# EAGLE library part PEC11R-4X (library Bourns-PEC11R-Encoder)
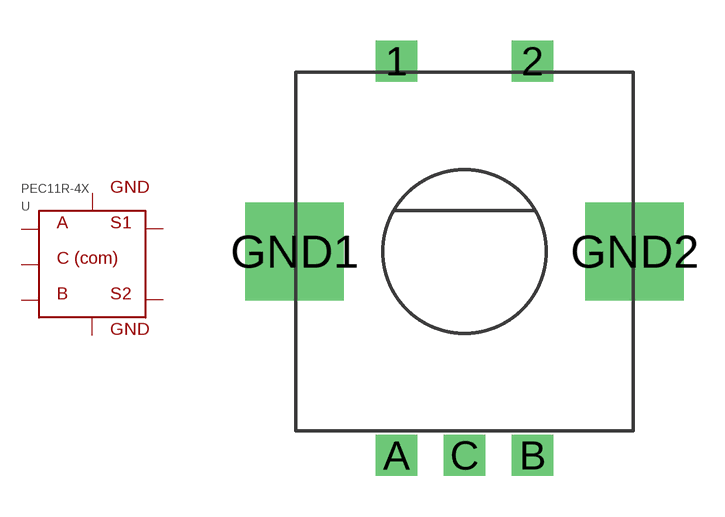
[diagram p0: symbol with the pads of ENC; footprint ENC]

Designator prefix -

## PEC11R-4X  [ENC]
1  SW1  pas
2  SW2  pas
A  A  pas
B  B  pas
C  C  pas
GND1  GND1  pas
GND2  GND2  pas

## Footprint ENC (pad centres in mm)
drill 1 square: 1 -2.5,7; 2 2.5,7; A -2.5,-7.5; B 2.5,-7.5; C 0,-7.5
drill 2.6 square: GND1 -6.25,0; GND2 6.25,0